# Altium integrated library encoders.IntLib: 1 symbol
Pins are listed as number, name and electrical type; pins without a type are passive.

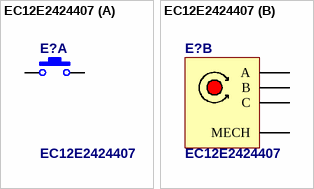
[diagram p0: symbol EC12E2424407]

## EC12E2424407
designator E?
Alps 20mm, 24PPR+SW Encoder
footprint EC12E242 (12mm Size Insulated Shaft (20mm operating section) Type Encoder)
part A pins: S1, S2
part B pins: A, B, C, M MECH